# EAGLE library part ERM8-013-01-D-EMX (library con-samtec-er8)
ERM8 Series - Male Right Angle Edge Mount
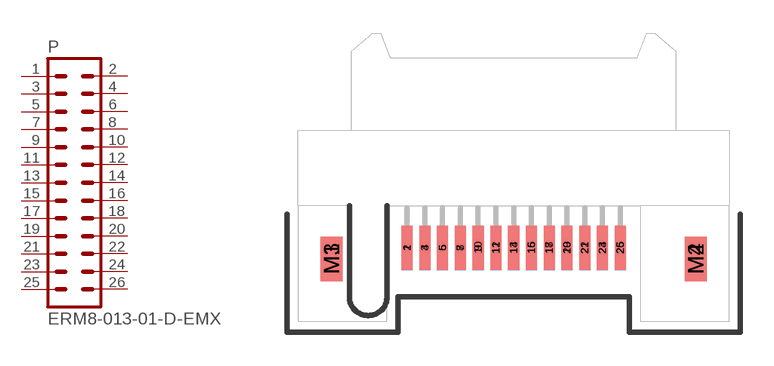
[diagram p42: symbol with the pads of ERM8-013-01-D-EMX; footprint ERM8-013-01-D-EMX]

Designator prefix P

## ERM8-013-01-D-EMX  [ERM8-013-01-D-EMX]
1  1  pas
2  2  pas
3  3  pas
4  4  pas
5  5  pas
6  6  pas
7  7  pas
8  8  pas
9  9  pas
10  10  pas
11  11  pas
12  12  pas
13  13  pas
14  14  pas
15  15  pas
16  16  pas
17  17  pas
18  18  pas
19  19  pas
20  20  pas
21  21  pas
22  22  pas
23  23  pas
24  24  pas
25  25  pas
26  26  pas

## Footprint ERM8-013-01-D-EMX (pad centres in mm)
0.8mm Edge Rate Terminal Assembly MALE, Double Row, 13 Position
smd 0.5 x 2 bottom: 1 -4.8,-1.9; 3 -4,-1.9; 5 -3.2,-1.9; 7 -2.4,-1.9; 9 -1.6,-1.9; 11 -0.8,-1.9; 13 0,-1.9; 15 0.8,-1.9; 17 1.6,-1.9; 19 2.4,-1.9; 21 3.2,-1.9; 23 4,-1.9; 25 4.8,-1.9
smd 0.5 x 2: 2 -4.8,-1.899; 4 -4,-1.899; 6 -3.2,-1.899; 8 -2.4,-1.899; 10 -1.6,-1.899; 12 -0.8,-1.899; 14 0,-1.899; 16 0.8,-1.899; 18 1.6,-1.899; 20 2.4,-1.899; 22 3.2,-1.899; 24 4,-1.899; 26 4.8,-1.899
smd 1 x 2: M1 -8.2,-2.399; M2 8.2,-2.399
smd 1 x 2 bottom: M3 -8.2,-2.4; M4 8.2,-2.4